# EAGLE library part RELAY (library LARS_409_INDUCTOR)
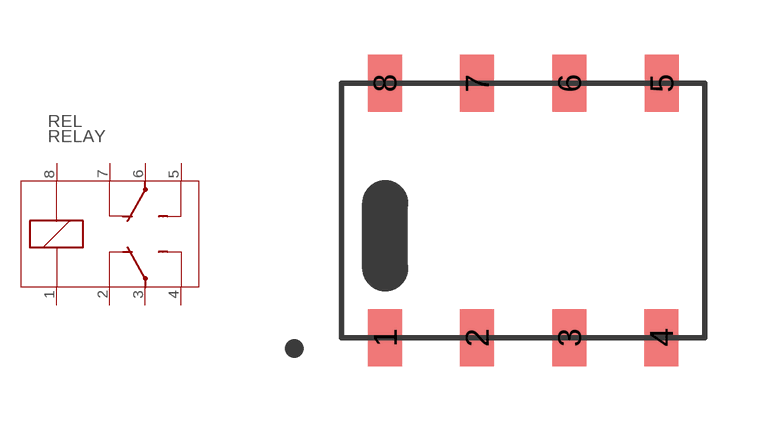
[diagram p0: symbol with the pads of G6K_2F; footprint G6K_2F]

Designator prefix REL

## RELAY  [G6K_2F]
1  P1  pas
2  P2  pas
3  P3  pas
4  P4  pas
5  P5  pas
6  P6  pas
7  P7  pas
8  P8  pas

## Footprint G6K_2F (pad centres in mm)
smd 0.935 x 1.57: 1 -3.8,-3.5; 2 -1.27,-3.5; 3 1.27,-3.5; 4 3.8,-3.5; 5 3.81,3.5; 6 1.27,3.5; 7 -1.27,3.5; 8 -3.81,3.5